# Altium integrated library LiPo 40mmX10mm Battery.IntLib: 1 symbol
Pins are listed as number, name and electrical type; pins without a type are passive.

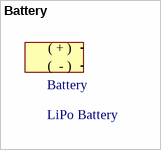
[diagram p0: symbol Battery]

## Battery
designator Battery, comment LiPo Battery
footprint PCBComponent_1
footprint PCBComponent_1
pins: 1 ( + ), 2 (  - )